# Altium schematic symbol library Schlib_Microcontroller.SchLib: 9 symbols
Pins are listed as number, name and electrical type; pins without a type are passive.

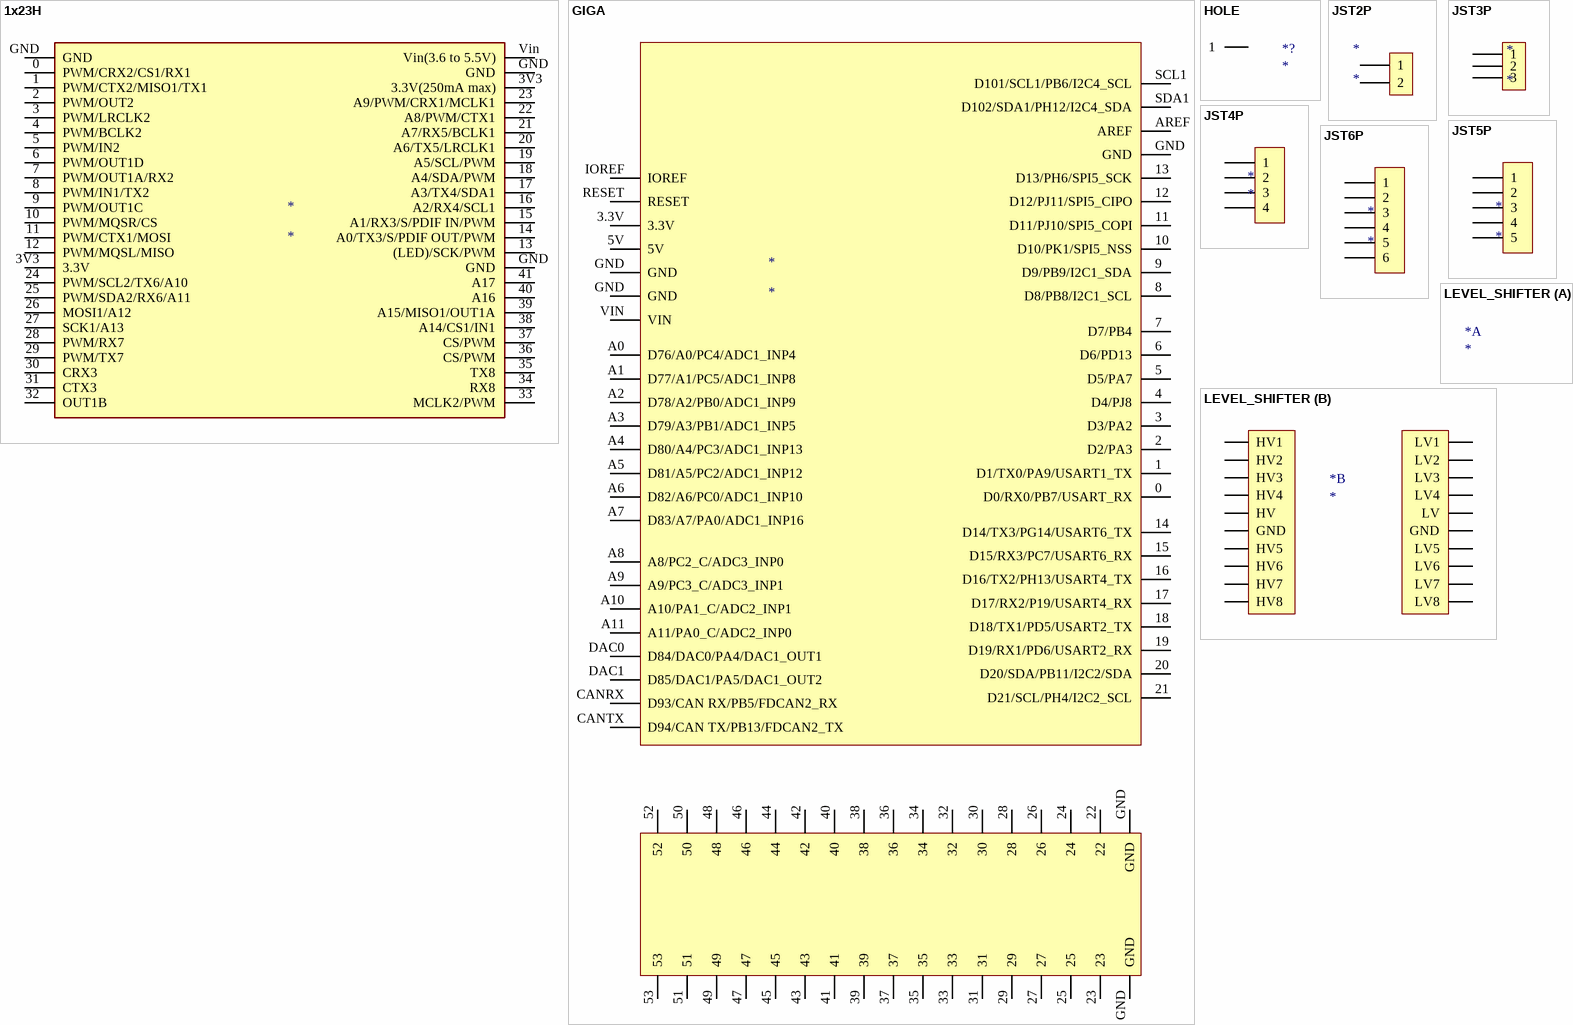
[diagram p0: symbols 1x23H to LEVEL_SHIFTER]

## 1x23H
designator *
footprint TEENSY
pins: 0 PWM/CRX2/CS1/RX1, 1 PWM/CTX2/MISO1/TX1, 2 PWM/OUT2, 3 PWM/LRCLK2, 3V3 3.3V(250mA max), 3V3 3.3V, 4 PWM/BCLK2, 5 PWM/IN2, 6 PWM/OUT1D, 7 PWM/OUT1A/RX2, 8 PWM/IN1/TX2, 9 PWM/OUT1C, 10 PWM/MQSR/CS, 11 PWM/CTX1/MOSI, 12 PWM/MQSL/MISO, 13 (LED)/SCK/PWM, 14 A0/TX3/S/PDIF OUT/PWM, 15 A1/RX3/S/PDIF IN/PWM, 16 A2/RX4/SCL1, 17 A3/TX4/SDA1, 18 A4/SDA/PWM, 19 A5/SCL/PWM, 20 A6/TX5/LRCLK1, 21 A7/RX5/BCLK1, 22 A8/PWM/CTX1, 23 A9/PWM/CRX1/MCLK1, 24 PWM/SCL2/TX6/A10, 25 PWM/SDA2/RX6/A11, 26 MOSI1/A12, 27 SCK1/A13, 28 PWM/RX7, 29 PWM/TX7, 30 CRX3, 31 CTX3, 32 OUT1B, 33 MCLK2/PWM, 34 RX8, 35 TX8, 36 CS/PWM, 37 CS/PWM, 38 A14/CS1/IN1, 39 A15/MISO1/OUT1A, 40 A16, 41 A17, GND, GND, GND, Vin Vin(3.6 to 5.5V)

## GIGA
designator *
footprint GIGA
pins: 0 D0/RX0/PB7/USART_RX, 1 D1/TX0/PA9/USART1_TX, 2 D2/PA3, 3 D3/PA2, 3.3V, 4 D4/PJ8, 5 D5/PA7, 5V, 6 D6/PD13, 7 D7/PB4, 8 D8/PB8/I2C1_SCL, 9 D9/PB9/I2C1_SDA, 10 D10/PK1/SPI5_NSS, 11 D11/PJ10/SPI5_COPI, 12 D12/PJ11/SPI5_CIPO, 13 D13/PH6/SPI5_SCK, 14 D14/TX3/PG14/USART6_TX, 15 D15/RX3/PC7/USART6_RX, 16 D16/TX2/PH13/USART4_TX, 17 D17/RX2/P19/USART4_RX, 18 D18/TX1/PD5/USART2_TX, 19 D19/RX1/PD6/USART2_RX, 20 D20/SDA/PB11/I2C2/SDA, 21 D21/SCL/PH4/I2C2_SCL, 22 "Cathode", 23 "Cathode", 24 "Cathode", 25 "Cathode", 26 "Cathode", 27 "Cathode", 28 "Cathode", 29 "Cathode", 30 "Cathode", 31 "Cathode", 32 "Cathode", 33 "Cathode", 34 "Cathode", 35 "Cathode", 36 "Cathode", 37 "Cathode", 38 "Cathode", 39 "Cathode", 40 "Cathode", 41 "Cathode", 42 "Cathode", 43 "Cathode", 44 "Cathode", 45 "Cathode", 46 "Cathode", 47 "Cathode", 48 "Cathode", 49 "Cathode", 50 "Cathode", 51 "Cathode", 52 "Cathode", 53 "Cathode", A0 D76/A0/PC4/ADC1_INP4, A1 D77/A1/PC5/ADC1_INP8, A2 D78/A2/PB0/ADC1_INP9, A3 D79/A3/PB1/ADC1_INP5, A4 D80/A4/PC3/ADC1_INP13, A5 D81/A5/PC2/ADC1_INP12, A6 D82/A6/PC0/ADC1_INP10, A7 D83/A7/PA0/ADC1_INP16, A8 A8/PC2_C/ADC3_INP0, A9 A9/PC3_C/ADC3_INP1, A10 A10/PA1_C/ADC2_INP1, A11 A11/PA0_C/ADC2_INP0, AREF, CANRX D93/CAN RX/PB5/FDCAN2_RX, CANTX D94/CAN TX/PB13/FDCAN2_TX, DAC0 D84/DAC0/PA4/DAC1_OUT1, DAC1 D85/DAC1/PA5/DAC1_OUT2, GND, GND, GND, GND "Cathode", GND "Cathode", IOREF, RESET, SCL1 D101/SCL1/PB6/I2C4_SCL, SDA1 D102/SDA1/PH12/I2C4_SDA, VIN

## HOLE
designator *?
footprint HOLE
pins: 1 "Cathode"

## JST2P
designator *
footprint JST2P
pins: 1, 2

## JST3P
designator *
footprint JST3P
pins: 1, 2, 3

## JST4P
designator *
footprint JST4P
pins: 1, 2, 3, 4

## JST5P
designator *
footprint JST5P
pins: 1, 2, 3, 4, 5

## JST6P
designator *
footprint JST6P
pins: 1, 2, 3, 4, 5, 6

## LEVEL_SHIFTER
designator *
footprint LEVEL_SHIFTER
part B pins: GND "Cathode", GND "Cathode", HV "Cathode", HV1 "Cathode", HV2 "Cathode", HV3 "Cathode", HV4 "Cathode", HV5 "Cathode", HV6 "Cathode", HV7 "Cathode", HV8 "Cathode", LV "Cathode", LV1 "Cathode", LV2 "Cathode", LV3 "Cathode", LV4 "Cathode", LV5 "Cathode", LV6 "Cathode", LV7 "Cathode", LV8 "Cathode"